# EAGLE library part FREQUENCY_DIVIDER (library TuansLib)
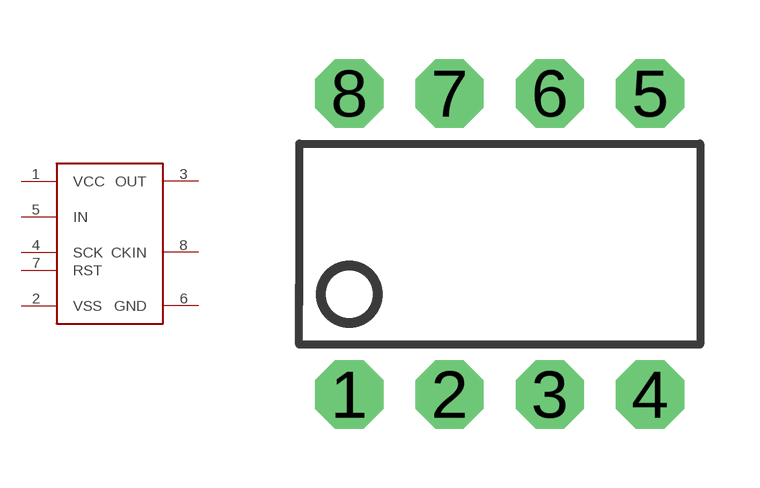
[diagram p3: symbol with the pads of DIP08; footprint DIP08]

Designator prefix -

## FREQUENCY_DIVIDER  [DIP08]
1  VCC
2  VSS
3  OUT
4  SCK
5  IN
6  GND
7  RST
8  CKIN

## Footprint DIP08 (pad centres in mm)
Dual In Line
drill 0.813 pad 1.727 octagon: 1 -3.81,-3.81; 2 -1.27,-3.81; 3 1.27,-3.81; 4 3.81,-3.81; 5 3.81,3.81; 6 1.27,3.81; 7 -1.27,3.81; 8 -3.81,3.81